# EAGLE library part AD5504 (library SmartMDCPrint)
ANALOG DEVICES High Voltage, Quad-Channel 12-Bit Voltage Output DAC
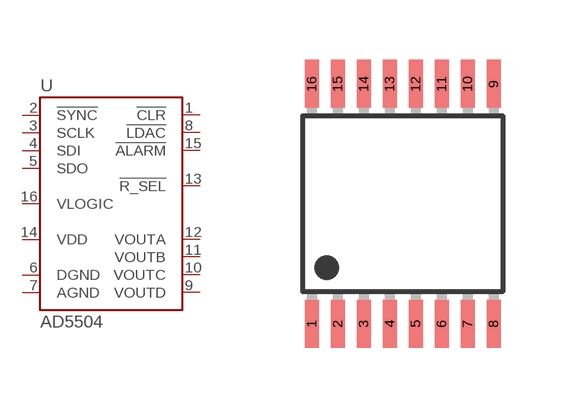
[diagram p9: symbol with the pads of TSSOP16; footprint TSSOP16]

Designator prefix U

## AD5504BRUZ  [TSSOP16]
1  !CLR  in
2  !SYNC  in
3  SCLK  in
4  SDI  in
5  SDO  out
6  DGND  sup
7  AGND  sup
8  !LDAC  in
9  VOUTD  out
10  VOUTC  out
11  VOUTB  out
12  VOUTA  out
13  !R_SEL  in
14  VDD  sup
15  !ALARM  out
16  VLOGIC  sup

## Footprint TSSOP16 (pad centres in mm)
smd 0.35 x 1.2: 1 -2.275,-3; 2 -1.625,-3; 3 -0.975,-3; 4 -0.325,-3; 5 0.325,-3; 6 0.975,-3; 7 1.625,-3; 8 2.275,-3; 9 2.275,3; 10 1.625,3; 11 0.975,3; 12 0.325,3; 13 -0.325,3; 14 -0.975,3; 15 -1.625,3; 16 -2.275,3